# EAGLE library part ATXMEGA128A3U (library automaton)
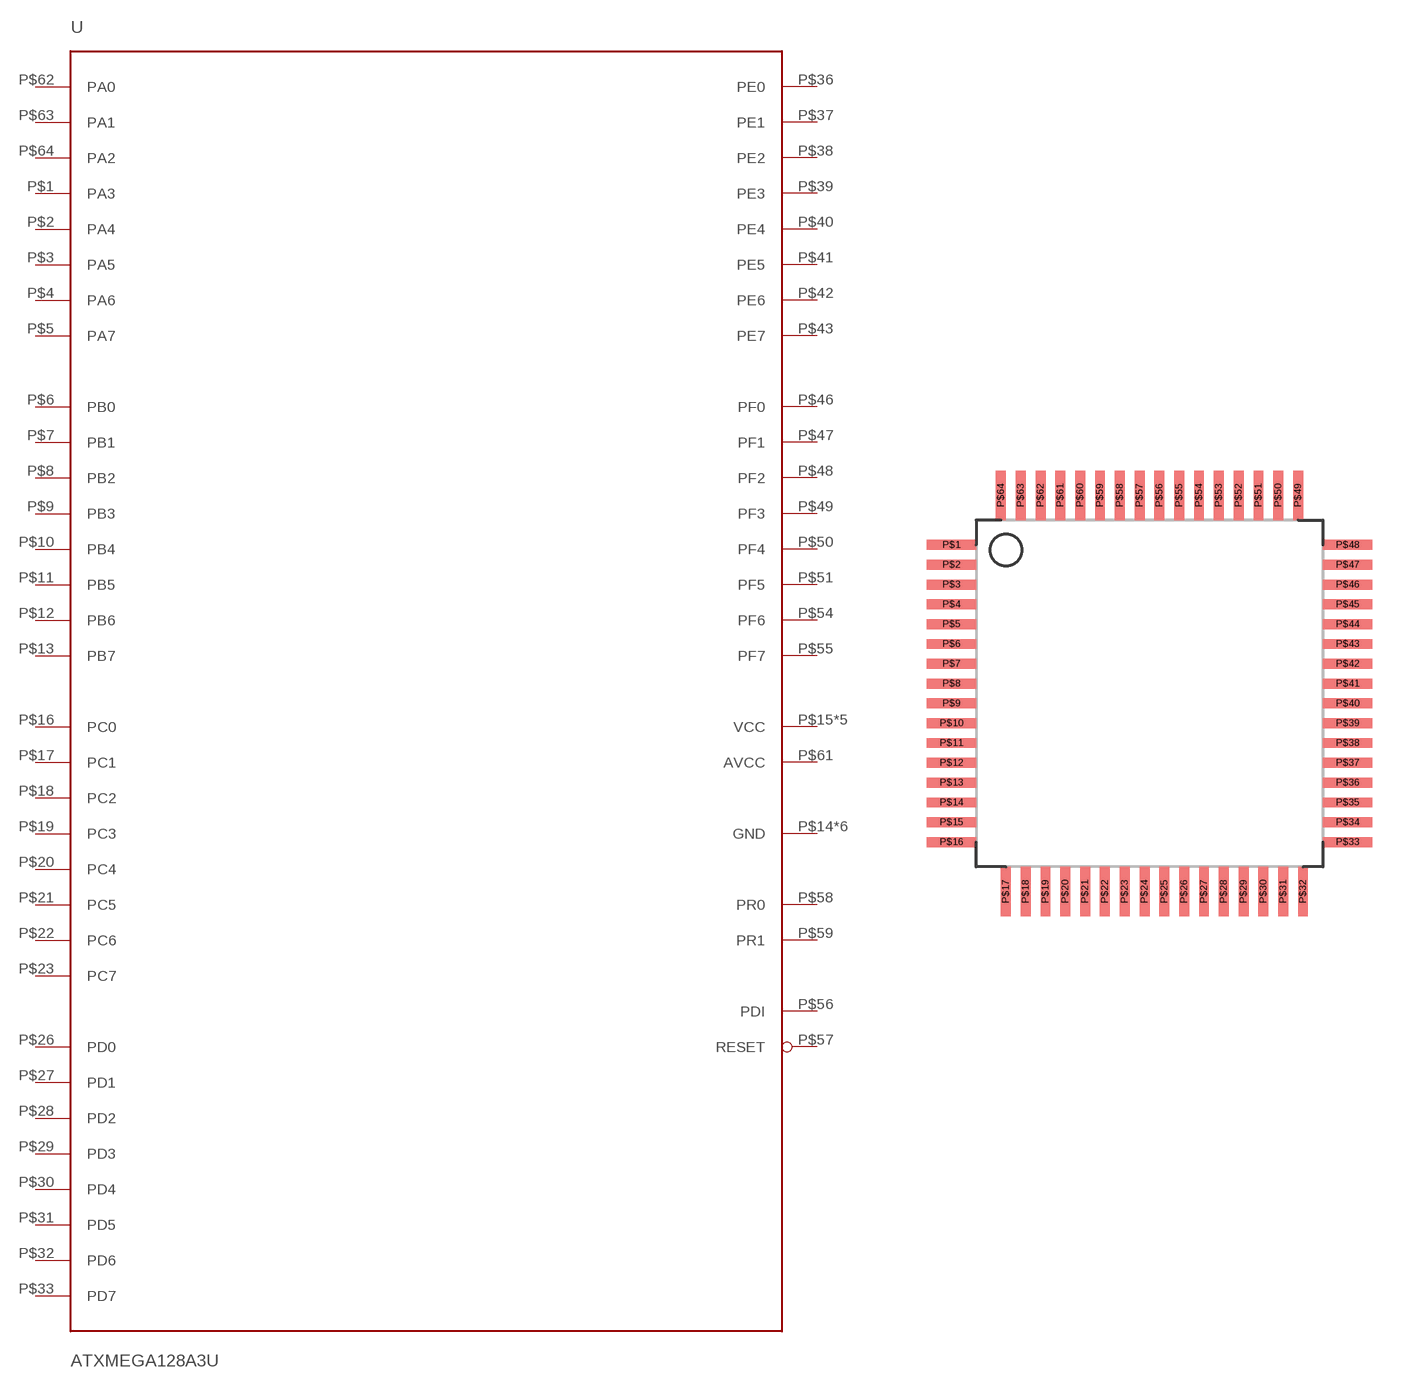
[diagram p0: symbol with the pads of ATMEL_TQFP64; footprint ATMEL_TQFP64]

Designator prefix -

## ATXMEGA128A3UTQFP  [ATMEL_TQFP64]
P$1  PA3
P$2  PA4
P$3  PA5
P$4  PA6
P$5  PA7
P$6  PB0
P$7  PB1
P$8  PB2
P$9  PB3
P$10  PB4
P$11  PB5
P$12  PB6
P$13  PB7
P$14  GND  pwr
P$15  VCC  pwr
P$16  PC0
P$17  PC1
P$18  PC2
P$19  PC3
P$20  PC4
P$21  PC5
P$22  PC6
P$23  PC7
P$24  GND  pwr
P$25  VCC  pwr
P$26  PD0
P$27  PD1
P$28  PD2
P$29  PD3
P$30  PD4
P$31  PD5
P$32  PD6
P$33  PD7
P$34  GND  pwr
P$35  VCC  pwr
P$36  PE0
P$37  PE1
P$38  PE2
P$39  PE3
P$40  PE4
P$41  PE5
P$42  PE6
P$43  PE7
P$44  GND  pwr
P$45  VCC  pwr
P$46  PF0
P$47  PF1
P$48  PF2
P$49  PF3
P$50  PF4
P$51  PF5
P$52  GND  pwr
P$53  VCC  pwr
P$54  PF6
P$55  PF7
P$56  PDI
P$57  RESET
P$58  PR0
P$59  PR1
P$60  GND  pwr
P$61  AVCC  pwr
P$62  PA0
P$63  PA1
P$64  PA2

## Footprint ATMEL_TQFP64 (pad centres in mm)
smd 2 x 0.4: P$1 -8,6; P$2 -8,5.2; P$3 -8,4.4; P$4 -8,3.6; P$5 -8,2.8; P$6 -8,2; P$7 -8,1.2; P$8 -8,0.4; P$9 -8,-0.4; P$10 -8,-1.2; P$11 -8,-2; P$12 -8,-2.8; P$13 -8,-3.6; P$14 -8,-4.4; P$15 -8,-5.2; P$16 -8,-6; P$33 8,-6; P$34 8,-5.2; P$35 8,-4.4; P$36 8,-3.6; P$37 8,-2.8; P$38 8,-2; P$39 8,-1.2; P$40 8,-0.4; P$41 8,0.4; P$42 8,1.2; P$43 8,2; P$44 8,2.8; P$45 8,3.6; P$46 8,4.4; P$47 8,5.2; P$48 8,6
smd 0.4 x 2: P$17 -5.8,-8; P$18 -5,-8; P$19 -4.2,-8; P$20 -3.4,-8; P$21 -2.6,-8; P$22 -1.8,-8; P$23 -1,-8; P$24 -0.2,-8; P$25 0.6,-8; P$26 1.4,-8; P$27 2.2,-8; P$28 3,-8; P$29 3.8,-8; P$30 4.6,-8; P$31 5.4,-8; P$32 6.2,-8; P$49 6,8; P$50 5.2,8; P$51 4.4,8; P$52 3.6,8; P$53 2.8,8; P$54 2,8; P$55 1.2,8; P$56 0.4,8; P$57 -0.4,8; P$58 -1.2,8; P$59 -2,8; P$60 -2.8,8; P$61 -3.6,8; P$62 -4.4,8; P$63 -5.2,8; P$64 -6,8